# Altium schematic symbol library TPS23754PWP.SchLib: 1 symbol
Pins are listed as number, name and electrical type; pins without a type are passive.

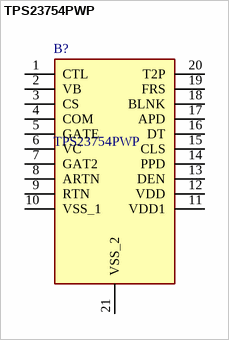
[diagram p0: symbol TPS23754PWP]

## TPS23754PWP
designator B?
Texas Instruments TPS23754PWP, DC-DC Controller, 57 V, DC to DC Isolator Converter, 278 kHz, 20-Pin, TSSOP; Geometry.Height: 1.2mm; Mouser Part Number: 595-TPS23754PWP; Mouser Price/Stock: https://www.mouser.co.uk/ProductDetail/Texas-Instruments/TPS23754PWP?qs=XGzIaZb%2FFYIm64IZifvviQ%3D%3D; Manufacturer_Name: Texas Instruments; Manufacturer_Part_Number: TPS23754PWP; Datasheet Link: http://www.ti.com/lit/gpn/tps23754
footprint SOP65P640X120-21N
pins: 1 CTL, 2 VB, 3 CS, 4 COM, 5 GATE, 6 VC, 7 GAT2, 8 ARTN, 9 RTN, 10 VSS_1, 11 VDD1, 12 VDD, 13 DEN, 14 PPD, 15 CLS, 16 DT, 17 APD, 18 BLNK, 19 FRS, 20 T2P, 21 VSS_2